# Altium footprint library TI_10-PIN-WSON_2mm-3mm.PcbLib: 1 footprints
Each footprint in its own frame and in the unit in brackets; x right, y up, seen from the top. Pads: shape width x height; smd on the part's side, far side on the other; paste and mask are expansions set on the pad; w line width, h text height; cw(c..) or ccw(c..) is an arc to the next point about the centre after c.
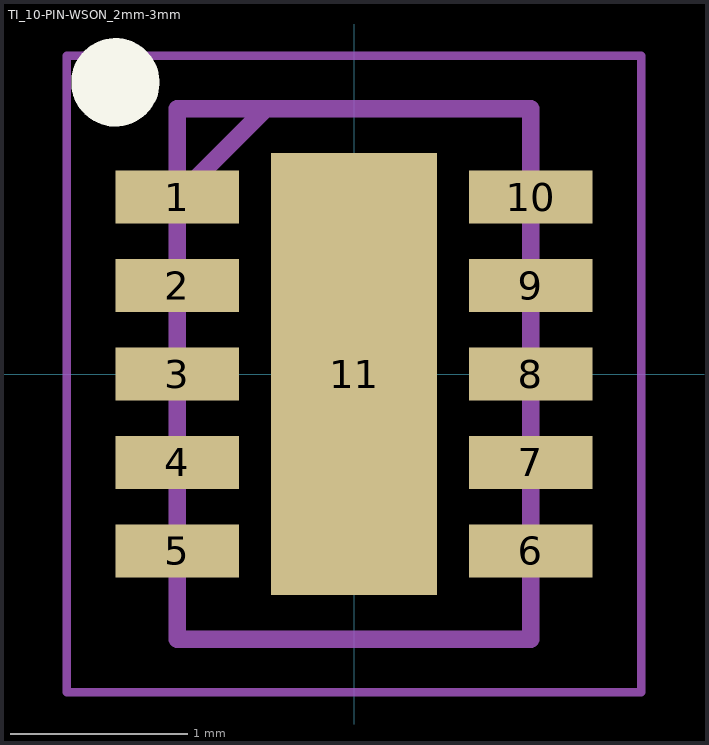
[diagram p0: the footprint, top view; thin cyan lines are the x and y axes]

## TI_10-PIN-WSON_2mm-3mm [mm]
pads (11):
  rect 0.7x0.3 smd: 1(-1,1) 2(-1,0.5) 3(-1,0) 4(-1,-0.5) 5(-1,-1) 6(1,-1) 7(1,-0.5) 8(1,0) 9(1,0.5) 10(1,1)
  rect 0.94x2.5 smd: 11(0,0)
Top Overlay:
  circle w0.25: c-1.35,1.65 r0.125
Mechanical 13:
  lines w0.1: -1,1 -0.5,1.5 ; -1,-1.5 -1,1.5 1,1.5 1,-1.5 -1,-1.5
Mechanical 15:
  lines w0.05: -1.625,-1.8 -1.625,1.8 1.625,1.8 1.625,-1.8 -1.625,-1.8
3D body "TPS22953DQCR.stp": height 0.75, standoff 0, extent -1,-1.5 1,1.5